# Altium integrated library CL21A476MQYNNNE.IntLib: 1 symbol
Pins are listed as number, name and electrical type; pins without a type are passive.

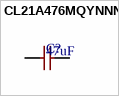
[diagram p0: symbol CL21A476MQYNNNE]

## CL21A476MQYNNNE
designator C?  value 47uF  (hidden comment: CL21A476MQYNNNE)
Multilayer Ceramic Capacitors MLCC - SMD/SMT. 47uF 6.3V X5R +/-20% 0805 Multilayer Ceramic Capacitors MLCC - SMD/SMT ROHS; Manufacturer: Samsung Electro-Mechanics; Component Type: Capacitors; Design Item ID: CL21A476MQYNNNE; JLCPCB Part #: C16780; Manufacturer Part Number: CL21A476MQYNNNE
footprint CL21A476MQYNNNE (C0805)
pins: 1, 2